# Altium integrated library PCB_Project1.IntLib: 9 symbols
Pins are listed as number, name and electrical type; pins without a type are passive.

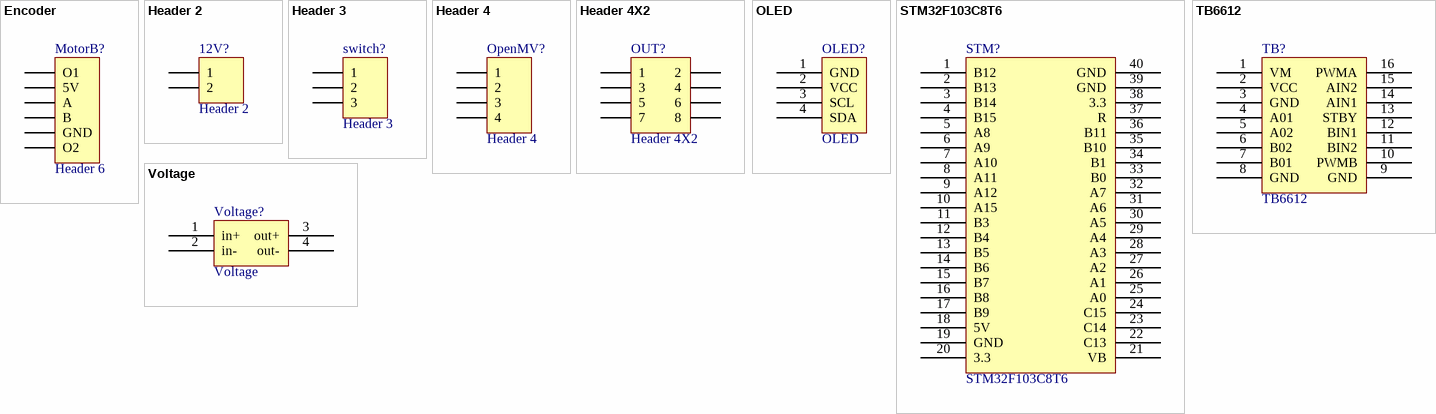
[diagram p0: symbols Encoder to Voltage]

## Encoder
designator MotorB?, comment Header 6
Header, 6-Pin; LatestRevisionDate: 17-Jul-2002; LatestRevisionNote: Re-released for DXP Platform.; Publisher: Altium Limited
footprint HDR1X6 (Connector; Header; 6 Position)
signal-integrity model Connector
pins: 1 O1, 2 5V, 3 A, 4 B, 5 GND, 6 O2

## Header 2
designator 12V?
Header, 2-Pin; LatestRevisionDate: 17-Jul-2002; LatestRevisionNote: Re-released for DXP Platform.; Publisher: Altium Limited
footprint HDR1X2 (Connector; Header; 2 Position)
signal-integrity model Connector
pins: 1, 2

## Header 3
designator switch?
Header, 3-Pin; LatestRevisionDate: 17-Jul-2002; LatestRevisionNote: Re-released for DXP Platform.; Publisher: Altium Limited
footprint HDR1X3 (Connector; Header; 3 Position)
signal-integrity model Connector
pins: 1, 2, 3

## Header 4
designator OpenMV?
Header, 4-Pin; LatestRevisionDate: 17-Jul-2002; LatestRevisionNote: Re-released for DXP Platform.; Publisher: Altium Limited
footprint HDR1X4 (Connector; Header; 4 Position)
signal-integrity model Connector
pins: 1, 2, 3, 4

## Header 4X2
designator OUT?
Header, 4-Pin, Dual row; LatestRevisionDate: 17-Jul-2002; LatestRevisionNote: Re-released for DXP Platform.; Publisher: Altium Limited
footprint HDR2X4 (Connector; Header; 4x2 Position)
signal-integrity model Connector
pins: 1, 2, 3, 4, 5, 6, 7, 8

## OLED
designator OLED?
pins: 1 GND, 2 VCC, 3 SCL, 4 SDA

## STM32F103C8T6
designator STM?
pins: 1 B12, 2 B13, 3 B14, 4 B15, 5 A8, 6 A9, 7 A10, 8 A11, 9 A12, 10 A15, 11 B3, 12 B4, 13 B5, 14 B6, 15 B7, 16 B8, 17 B9, 18 5V, 19 GND, 20 3.3, 21 VB, 22 C13, 23 C14, 24 C15, 25 A0, 26 A1, 27 A2, 28 A3, 29 A4, 30 A5, 31 A6, 32 A7, 33 B0, 34 B1, 35 B10, 36 B11, 37 R, 38 3.3, 39 GND, 40 GND

## TB6612
designator TB?
pins: 1 VM, 2 VCC, 3 GND, 4 A01, 5 A02, 6 B02, 7 B01, 8 GND, 9 GND, 10 PWMB, 11 BIN2, 12 BIN1, 13 STBY, 14 AIN1, 15 AIN2, 16 PWMA

## Voltage
designator Voltage?
pins: 1 in+, 2 in-, 3 out+, 4 out-